# Altium footprint library HDRV40W64P254_20X2_5060X500H810.PcbLib: 1 footprints
Each footprint in its own frame and in the unit in brackets; x right, y up, seen from the top. Pads: shape width x height; smd on the part's side, far side on the other; paste and mask are expansions set on the pad; w line width, h text height; cw(c..) or ccw(c..) is an arc to the next point about the centre after c.
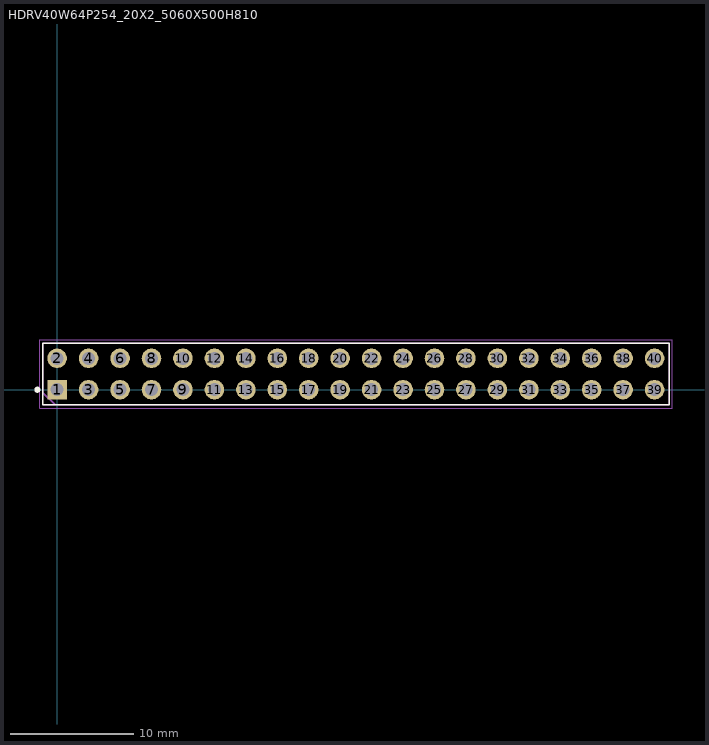
[diagram p0: the footprint, top view; thin cyan lines are the x and y axes]

## HDRV40W64P254_20X2_5060X500H810 [mm] "Header, Vertical Non-Shrouded, 2.54 mm pitch; 0.64 mm lead width, 40 pin, 2 rows, 50.60 mm L X 5.00 mm W X 8.10 mm H body"
height 8.1
pads (40):
  rect 1.58x1.58 / inner round 1.58 / far side rect 1.58x1.58 hole 1.05 paste-2539.97: 1(0,0)
  round 1.58 hole 1.05 paste-2539.97: 2(0,2.54) 3(2.54,0) 4(2.54,2.54) 5(5.08,0) 6(5.08,2.54) 7(7.62,0) 8(7.62,2.54) 9(10.16,0) 10(10.16,2.54) 11(12.7,0) 12(12.7,2.54) 13(15.24,0) 14(15.24,2.54) 15(17.78,0) 16(17.78,2.54) 17(20.32,0) 18(20.32,2.54) 19(22.86,0) 20(22.86,2.54) 21(25.4,0) 22(25.4,2.54) 23(27.94,0) 24(27.94,2.54) 25(30.48,0) 26(30.48,2.54) 27(33.02,0) 28(33.02,2.54) 29(35.56,0) 30(35.56,2.54) 31(38.1,0) 32(38.1,2.54) 33(40.64,0) 34(40.64,2.54) 35(43.18,0) 36(43.18,2.54) 37(45.72,0) 38(45.72,2.54) 39(48.26,0) 40(48.26,2.54)
Top Overlay:
  circle w0.25: c-1.6,0 r0.125
  lines w0.12: -1.17,-1.23 -1.17,3.77 49.43,3.77 49.43,-1.23 -1.17,-1.23
Top Assembly:
  lines w0.12: -1.17,-0.23 -1.17,3.77 49.43,3.77 49.43,-1.23 -0.17,-1.23 -1.17,-0.23
Top Component Outline:
  drawing of 168 lines, arcs and shapes, not listed
Top Courtyard:
  circle w0.05: c0,0 r0.25
  lines w0.05: -0.35,0 0.35,0 ; 0,-0.35 0,0.35 ; -1.42,-1.48 -1.42,4.02 49.68,4.02 49.68,-1.48 -1.42,-1.48
Top Designator:
  text ".Designator" at 0,0 h1.2
3D body: height 0.25, standoff 0, extent 0,0 0.254,0.254
3D body "HDRV40W64P254_20X2_5060X500H810.STEP": height 8.1, standoff -2, extent -1.17,-1.23 49.43,3.77